# EAGLE library part QPL9096TR7 (library QPL9096TR7)
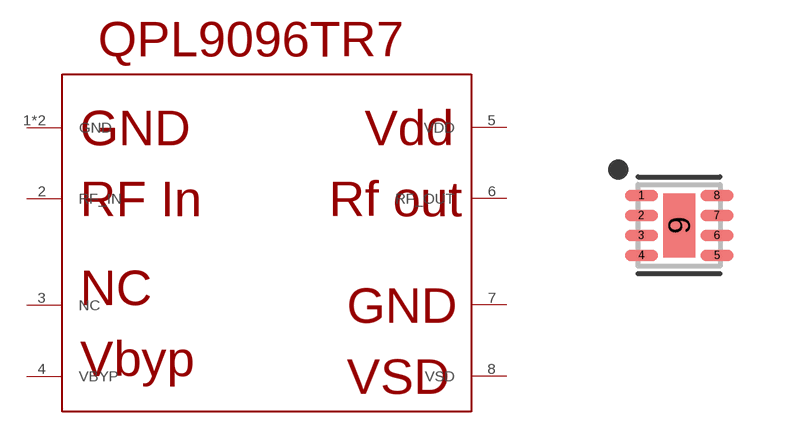
[diagram p0: symbol with the pads of SON50P202X202X80-9T80X160; footprint SON50P202X202X80-9T80X160]

Designator prefix -

## QPL9096TR7DFT-8  [SON50P202X202X80-9T80X160]
1  GND
2  RF_IN
3  NC
4  VBYP
5  VDD
6  RF_OUT
7
8  VSD
9  GND

## Footprint SON50P202X202X80-9T80X160 (pad centres in mm)
8-SON, 0.50 mm pitch, 2.02 X 2.02 X 0.80 mm body, 1.60 X 0.80 mm thermal pad 8-pin SON package with 0.50 mm pitch with body size 2.02 X 2.02 X 0.80 mm and thermal pad size 1.60 X 0.80 mm
smd 0.831 x 0.292: 1 -0.946,0.75; 2 -0.946,0.25; 3 -0.946,-0.25; 4 -0.946,-0.75; 5 0.946,-0.75; 6 0.946,-0.25; 7 0.946,0.25; 8 0.946,0.75
smd 0.8 x 1.6: 9 0,0